# Altium footprint library VESC_POWER.PcbLib: 17 footprints (part 2 of 2)
Each footprint in its own frame and in the unit in brackets; x right, y up, seen from the top. Pads: shape width x height; smd on the part's side, far side on the other; paste and mask are expansions set on the pad; w line width, h text height; cw(c..) or ccw(c..) is an arc to the next point about the centre after c.
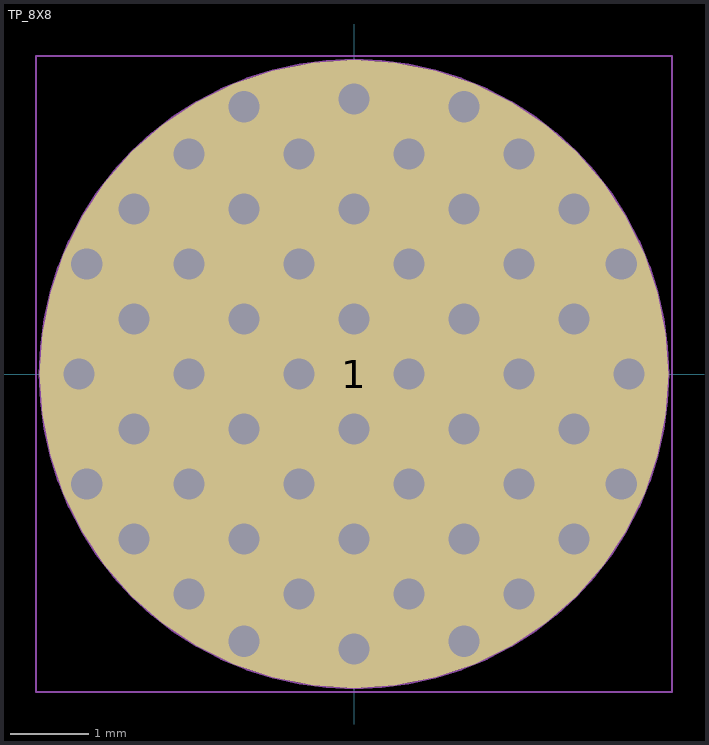
[diagram p1: the footprint, top view; thin cyan lines are the x and y axes]

## TP_8X8 [mm] "TP_8X8"
pads (1):
  round 8 smd: 1(0,0)
via 0,-0.7 diameter 0.6 hole 0.4
via 0,-2.1 diameter 0.6 hole 0.4
via 0,-3.5 diameter 0.6 hole 0.4
via 0.7,0 diameter 0.6 hole 0.4
via 2.1,0 diameter 0.6 hole 0.4
via 3.5,0 diameter 0.6 hole 0.4
via 0,0.7 diameter 0.6 hole 0.4
via 0,2.1 diameter 0.6 hole 0.4
via 0,3.5 diameter 0.6 hole 0.4
via -0.7,0 diameter 0.6 hole 0.4
via -2.1,0 diameter 0.6 hole 0.4
via -3.5,0 diameter 0.6 hole 0.4
via -0.7,-1.4 diameter 0.6 hole 0.4
via -0.7,-2.8 diameter 0.6 hole 0.4
via -1.4,-2.1 diameter 0.6 hole 0.4
via -1.4,-0.7 diameter 0.6 hole 0.4
via -2.1,-1.4 diameter 0.6 hole 0.4
via -2.1,-2.8 diameter 0.6 hole 0.4
via -2.8,-0.7 diameter 0.6 hole 0.4
via -2.8,-2.1 diameter 0.6 hole 0.4
via -2.8,0.7 diameter 0.6 hole 0.4
via -1.4,0.7 diameter 0.6 hole 0.4
via -0.7,1.4 diameter 0.6 hole 0.4
via -0.7,2.8 diameter 0.6 hole 0.4
via -1.4,2.1 diameter 0.6 hole 0.4
via -2.1,1.4 diameter 0.6 hole 0.4
via -2.8,2.1 diameter 0.6 hole 0.4
via -2.1,2.8 diameter 0.6 hole 0.4
via 0.7,2.8 diameter 0.6 hole 0.4
via 0.7,1.4 diameter 0.6 hole 0.4
via 0.7,-1.4 diameter 0.6 hole 0.4
via 0.7,-2.8 diameter 0.6 hole 0.4
via 1.4,-0.7 diameter 0.6 hole 0.4
via 2.8,-0.7 diameter 0.6 hole 0.4
via 2.8,0.7 diameter 0.6 hole 0.4
via 1.4,0.7 diameter 0.6 hole 0.4
via 2.1,1.4 diameter 0.6 hole 0.4
via 2.8,2.1 diameter 0.6 hole 0.4
via 1.4,2.1 diameter 0.6 hole 0.4
via 1.4,-2.1 diameter 0.6 hole 0.4
via 2.1,-1.4 diameter 0.6 hole 0.4
via 2.1,-2.8 diameter 0.6 hole 0.4
via 2.8,-2.1 diameter 0.6 hole 0.4
via 2.1,2.8 diameter 0.6 hole 0.4
via 3.4,1.4 diameter 0.6 hole 0.4
via 1.4,3.4 diameter 0.6 hole 0.4
via -1.4,3.4 diameter 0.6 hole 0.4
via -3.4,1.4 diameter 0.6 hole 0.4
via -3.4,-1.4 diameter 0.6 hole 0.4
via -1.4,-3.4 diameter 0.6 hole 0.4
via 1.4,-3.4 diameter 0.6 hole 0.4
via 3.4,-1.4 diameter 0.6 hole 0.4
Mechanical 7:
  circle w0.025: c0,0 r4
  lines w0.025: -4.05,-4.05 4.05,-4.05 4.05,4.05 -4.05,4.05 -4.05,-4.05
Mechanical 8:
  text "1" at -1.778,0 h0.64
Mechanical 9:
  circle w0.025: c0,0 r4
3D body "23mm.step": height 23, standoff 0, extent -3.75,-3.747 3.738,3.747